# Altium schematic symbol library IC.SchLib: 48 symbols (part 2 of 3)
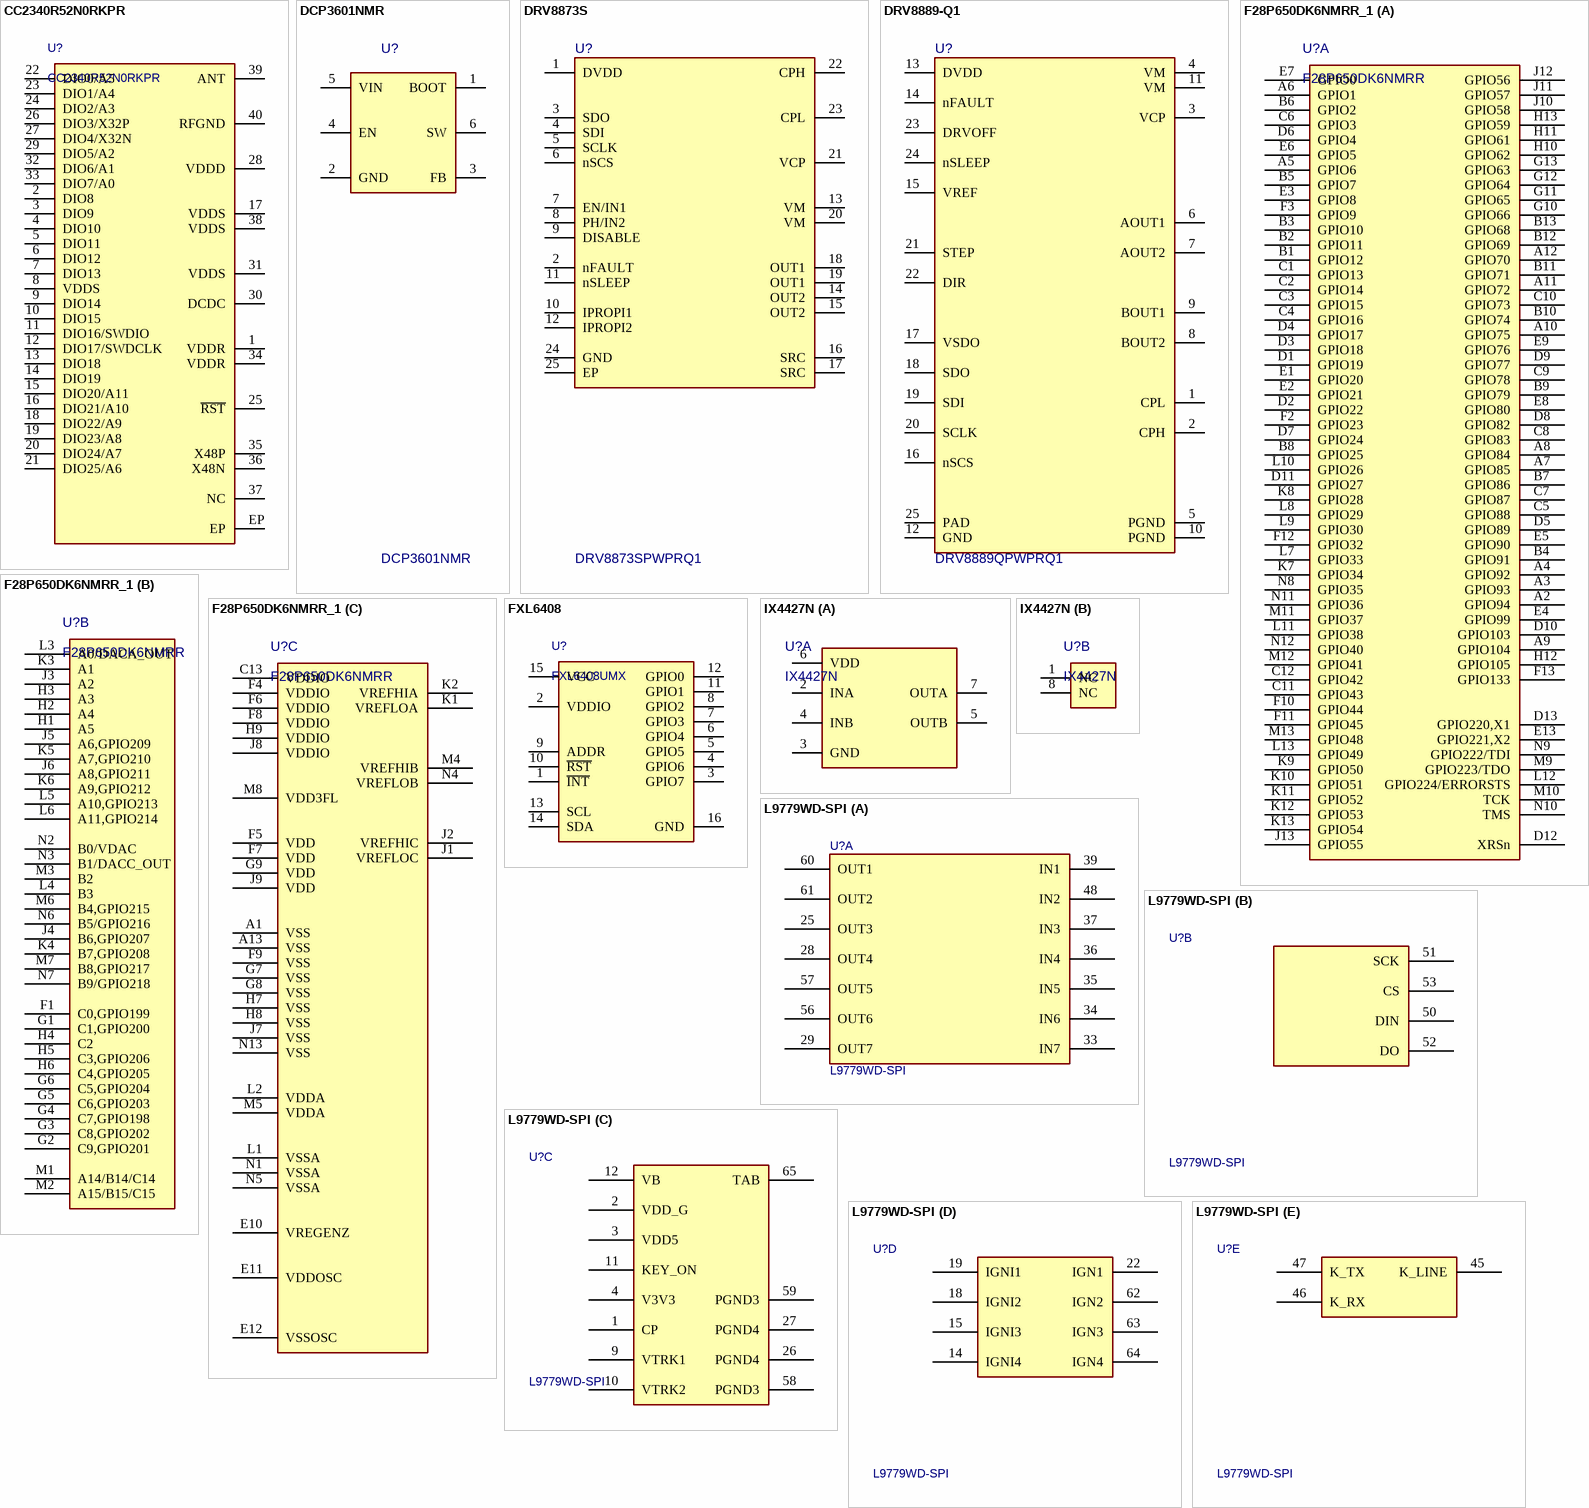
[diagram p6: symbols CC2340R52N0RKPR to L9779WD-SPI]

## IX4427N
designator U?
IC GATE DRVR LOW-SIDE 8SOIC; Manufacturer 1: IXYS; Number of Outputs: 2; Rise Time: 10ns; Output Current: 1.5A; Max Supply Voltage: 35V; Min Supply Voltage: 4.5V; Fall Time: 8ns; Operating Supply Current: 4mA; Turn-Off Delay Time: 60ns; Supplier 1: Mouser; Manufacturer Part Number 1: IX4427N; RoHS: Yes; Category: Gate Drivers; Pricing 1: 1=1.07000, 10=0.96200, 50=0.91300, 100=0.74900, 1000=0.48800, 10000=0.44500 (USD); Case/Package: SOIC; Weight: 0.019048oz; Min Operating Temperature: -40°C; Max Operating Temperature: 125°C; Packaging: Rail/Tube; Package Quantity: 100; Number of Drivers: 2; Turn-On Delay Time: 60ns; Series: IX4427; RoHS Compliant: Yes; ComponentLink1URL: http://www.mouser.com/ds/2/205/IX4426-27-28-257212.pdf?src-supplier=Mouser; ComponentLink1Description: http://www.mouser.com/ds/2/205/IX4426-27-28-257212.pdf?src-supplier=Mouser; ComponentLink2URL: http://www.ixysic.com/home/pdfs.nsf/www/IX4426-27-28.pdf/$file/IX4426-27-28.pdf?src-supplier=Digi-Key; ComponentLink2Description: http://www.ixysic.com/home/pdfs.nsf/www/IX4426-27-28.pdf/$file/IX4426-27-28.pdf?src-supplier=Digi-Key; Manufacturer Part Number: IX4427N
footprint SOIC8 (8-SOIC (0.154", 3.90mm Width))
part A pins: 2 INA, 3 GND, 4 INB, 5 OUTB, 6 VDD, 7 OUTA
part B pins: 1 NC, 8 NC

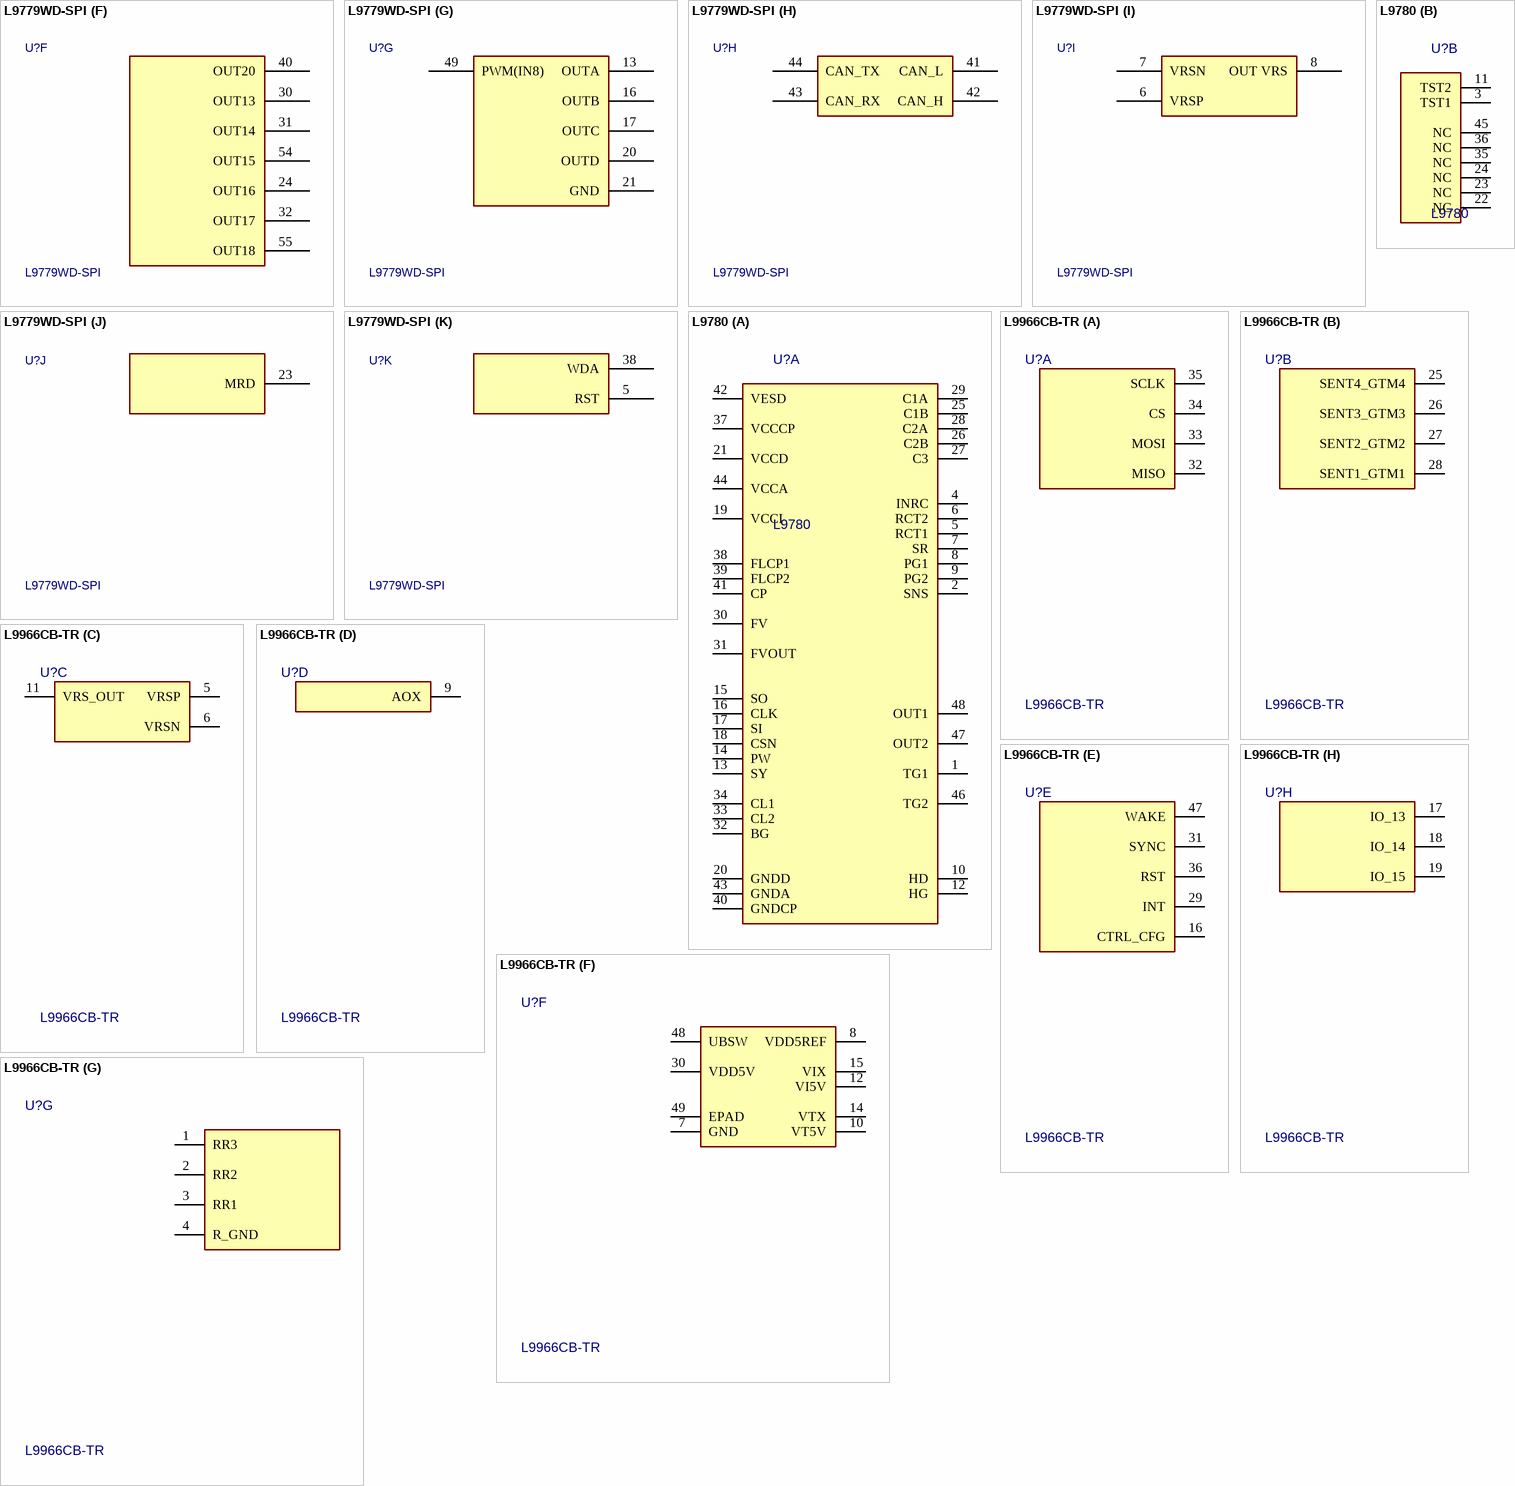
[diagram p2: symbols L9779WD-SPI to L9966CB-TR]

## L9779WD-SPI
designator U?
MULTIFUNCTION IC FOR ENGINE MANA; Manufacturer: STMicroelectronics; Operating Supply Current: 550uA; ComponentLink1URL: https://datasheet.ciiva.com/16844/142-0721-882-16844368.pdf?src-supplier=Future+Electronics; ComponentLink1Description: https://datasheet.ciiva.com/16844/142-0721-882-16844368.pdf?src-supplier=Future+Electronics; Supplier 1: Digi-Key; Manufacturer Part Number: L9779WD-SPI; RoHS: Yes; Category: Voltage Regulators - Linear; Stock 1: 1383; Pricing 1: 1=11,55000, 10=10,61500, 25=10,17520, 100=8,52500, 250=7,97500, 500=7,42500, 1000=7,04000, 2500=6,82000, 5000=6,60000 (USD); Mount: Surface Mount; Min Operating Temperature: -40°C; Max Operating Temperature: 125°C; Packaging: Tray; ComponentLink2URL: http://www.mouser.com/ds/2/389/l9779wd-spi-954852.pdf?src-supplier=Mouser; ComponentLink2Description: http://www.mouser.com/ds/2/389/l9779wd-spi-954852.pdf?src-supplier=Mouser; ComponentLink3URL: http://www.st.com/content/ccc/resource/technical/document/datasheet/ea/10/f2/db/39/73/44/4d/DM00175125.pdf/files/DM00175125.pdf/jcr:content/translations/en.DM00175125.pdf?src-supplier=Digi-Key; ComponentLink3Description: http://www.st.com/content/ccc/resource/technical/document/datasheet/ea/10/f2/db/39/73/44/4d/DM00175125.pdf/files/DM00175125.pdf/jcr:content/translations/en.DM00175125.pdf?src-supplier=Digi-Key; Supplier Part Number 1: 497-16385-ND
footprint HiQUAD-64 (64-Pin HI-QUAD package)
part A pins: 25 OUT3, 28 OUT4, 29 OUT7, 33 IN7, 34 IN6, 35 IN5, 36 IN4, 37 IN3, 39 IN1, 48 IN2, 56 OUT6, 57 OUT5, 60 OUT1, 61 OUT2
part B pins: 50 DIN, 51 SCK, 52 DO, 53 CS
part C pins: 1 CP, 2 VDD_G, 3 VDD5, 4 V3V3, 9 VTRK1, 10 VTRK2, 11 KEY_ON, 12 VB, 26 PGND4, 27 PGND4, 58 PGND3, 59 PGND3, 65 TAB
part D pins: 14 IGNI4, 15 IGNI3, 18 IGNI2, 19 IGNI1, 22 IGN1, 62 IGN2, 63 IGN3, 64 IGN4
part E pins: 45 K_LINE, 46 K_RX, 47 K_TX
part F pins: 24 OUT16, 30 OUT13, 31 OUT14, 32 OUT17, 40 OUT20, 54 OUT15, 55 OUT18
part G pins: 13 OUTA, 16 OUTB, 17 OUTC, 20 OUTD, 21 GND, 49 PWM(IN8)
part H pins: 41 CAN_L, 42 CAN_H, 43 CAN_RX, 44 CAN_TX
part I pins: 6 VRSP, 7 VRSN, 8 OUT VRS
part J pins: 23 MRD
part K pins: 5 RST, 38 WDA

## L9780
designator U?
IC POWERTRAIN INTERFACE 48LQFP; Manufacturer: STMicroelectronics; Supplier: Farnell; Supplier Part Number: 3367205; Manufacturer Part Number: L9780; RoHS: Yes; Category: Power Management ICs; Stock: 6388; RoHS Compliant: Yes; Supplier 1: Digikey; Supplier Part Number 1: 497-L9780-ND
footprint LQFP48 (48 Pin, Body 7x7x1.4)
part A pins: 1 TG1, 2 SNS, 4 INRC, 5 RCT1, 6 RCT2, 7 SR, 8 PG1, 9 PG2, 10 HD, 12 HG, 13 SY, 14 PW, 15 SO, 16 CLK, 17 SI, 18 CSN, 19 VCCI, 20 GNDD, 21 VCCD, 25 C1B, 26 C2B, 27 C3, 28 C2A, 29 C1A, 30 FV, 31 FVOUT, 32 BG, 33 CL2, 34 CL1, 37 VCCCP, 38 FLCP1, 39 FLCP2, 40 GNDCP, 41 CP, 42 VESD, 43 GNDA, 44 VCCA, 46 TG2, 47 OUT2, 48 OUT1
part B pins: 3 TST1, 11 TST2, 22 NC, 23 NC, 24 NC, 35 NC, 36 NC, 45 NC

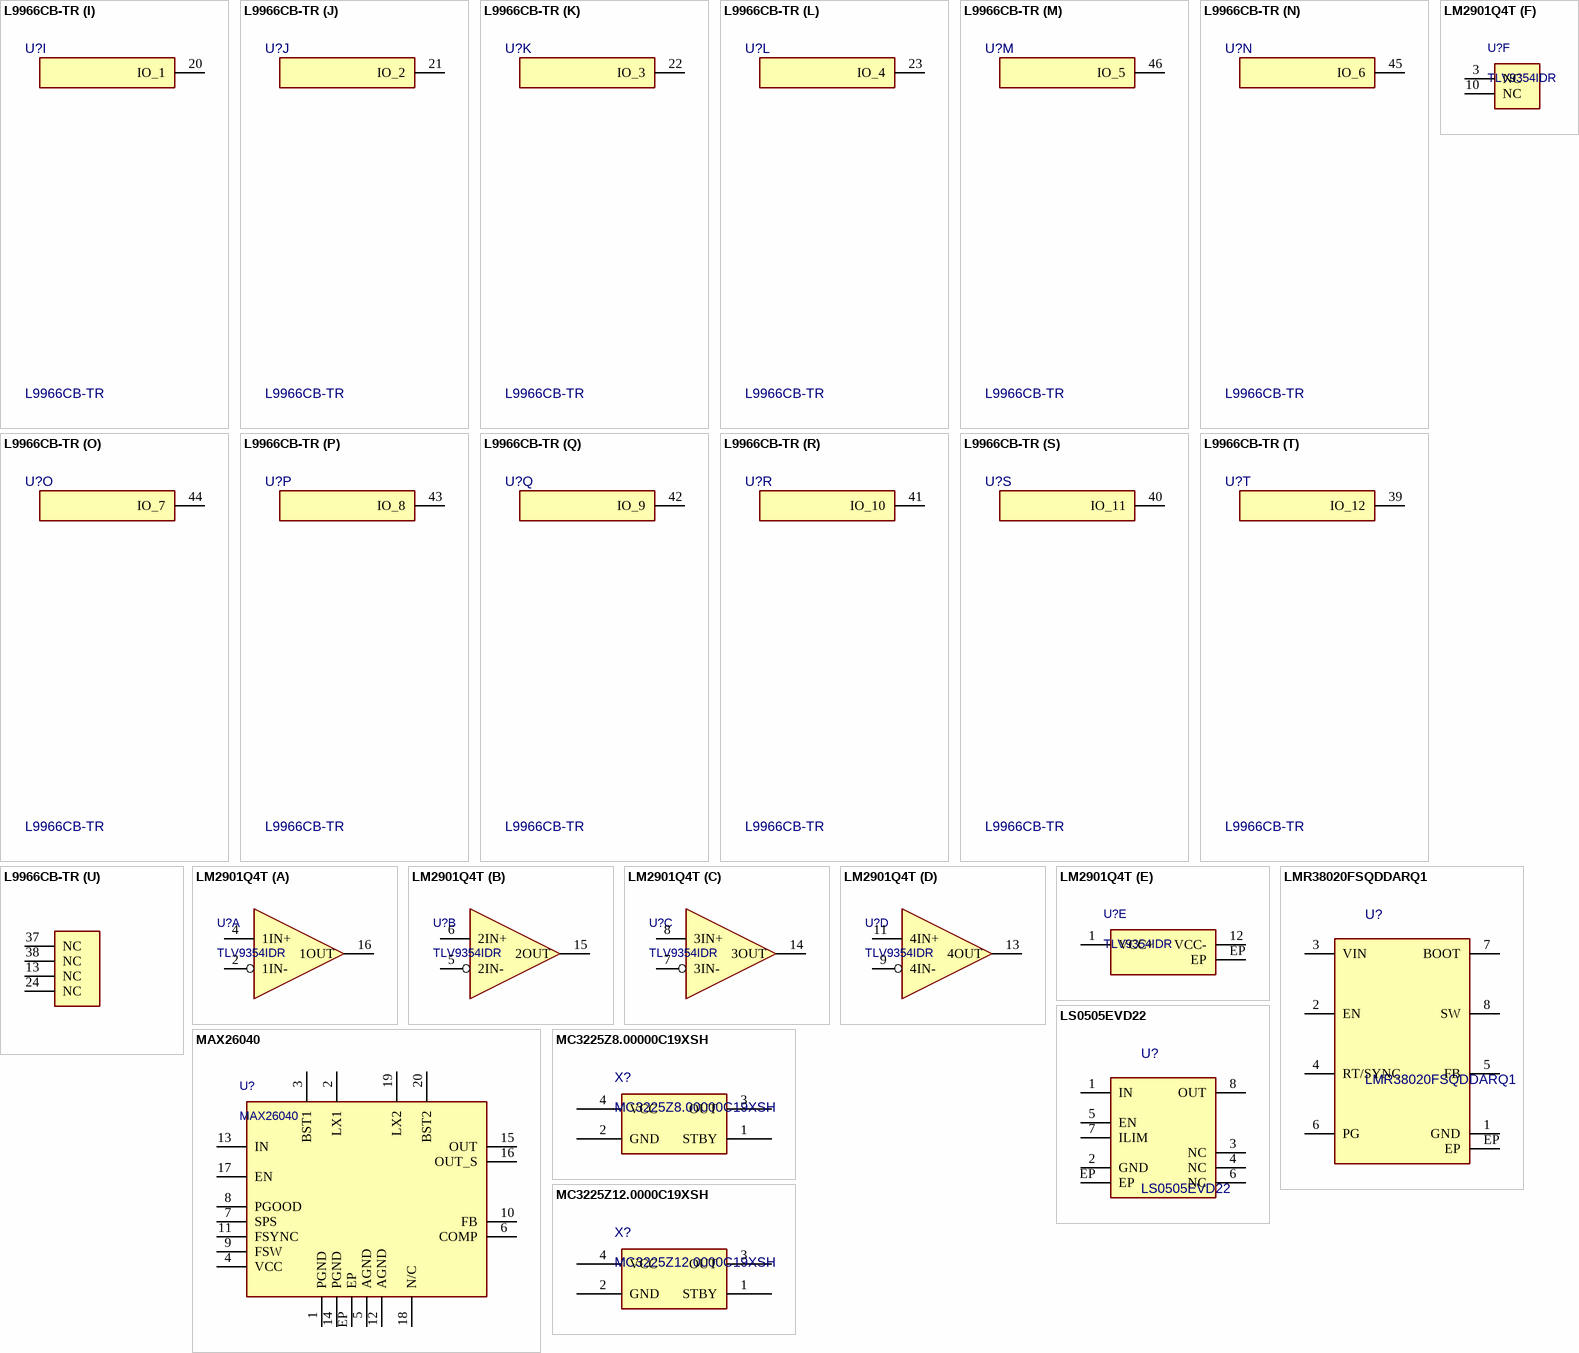
[diagram p3: symbols L9966CB-TR to MC3225Z12.0000C19XSH]

## L9966CB-TR
designator U?
FLEXINPUT IC FOR AUTOMOTIVE APPL; Manufacturer: STMicroelectronics; Supplier 1: Digi-Key; RoHS: Yes; Pricing 1: 2400=4.20000 (USD); Supplier Part Number 1: L9966CB-TR-ND; Manufacturer Part Number: L9966CB-TR; Case/Package: 48-TQFP
footprint TQFP48-EP (TQFP48 (7x7x1 mm exp. pad down 5.0x5.0))
part A pins: 32 MISO, 33 MOSI, 34 CS, 35 SCLK
part B pins: 25 SENT4_GTM4, 26 SENT3_GTM3, 27 SENT2_GTM2, 28 SENT1_GTM1
part C pins: 5 VRSP, 6 VRSN, 11 VRS_OUT
part D pins: 9 AOX
part E pins: 16 CTRL_CFG, 29 INT, 31 SYNC, 36 RST, 47 WAKE
part F pins: 7 GND, 8 VDD5REF, 10 VT5V, 12 VI5V, 14 VTX, 15 VIX, 30 VDD5V, 48 UBSW, 49 EPAD
part G pins: 1 RR3, 2 RR2, 3 RR1, 4 R_GND
part H pins: 17 IO_13, 18 IO_14, 19 IO_15
part I pins: 20 IO_1
part J pins: 21 IO_2
part K pins: 22 IO_3
part L pins: 23 IO_4
part M pins: 46 IO_5
part N pins: 45 IO_6
part O pins: 44 IO_7
part P pins: 43 IO_8
part Q pins: 42 IO_9
part R pins: 41 IO_10
part S pins: 40 IO_11
part T pins: 39 IO_12
part U pins: 13 NC, 24 NC, 37 NC, 38 NC

## LM2901Q4T
designator U?, comment TLV9354IDR
IC COMPARATOR 4 GEN PUR 16QFN; Manufacturer: STMicroelectronics; Manufacturer Part Number: LM2901Q4T; Input Bias Current: 250nA; Input Offset Voltage (Vos): 15mV; Max Dual Supply Voltage: 16V; Max Supply Current: 2.5mA; Max Supply Voltage: 36V; Min Dual Supply Voltage: 1V; Min Supply Voltage: 2V; Nominal Supply Current: 275µA; Number of Channels: 4; Operating Supply Voltage: 5V; Output Type: TTL; Response Time: 1.3µs; Voltage Gain: 106.02dB; Supplier: DigiKey; Supplier Part Number: 497-12401-1-ND; RoHS: Compliant; Category: Comparators; Stock: 7772; Pricing: 1=0,39, 10=0,274, 25=0,2436, 100=0,2106, 250=0,19492, 500=0,18542, 1000=0,1776 (USD); Case/Package: QFN; China RoHS: Compliant; Height - Seated (Max): 1mm; Lead Free: Lead Free; Length: 3mm; Lifecycle Status: Production; Max Operating Temperature: 125°C; Min Operating Temperature: -40°C; Mounting Technology: Surface Mount; Number of Circuits: 4; Number of Elements: 4; Pins: 16; Number of Terminals: 16; Packaging: Tape and Reel; Quiescent Current: 2.5mA; Radiation Hardening: No; REACH SVHC: Yes; Schedule B: 8542390000, 8542390000|8542390000|8542390000|8542390000|8542390000|8542390000|8542390000|8542390000|8542390000|8542390000|8542390000|8542390000|8542390000|8542390000|8542390000|8542390000|8542390000|8542390000|8542390000|8542390000|8542390000|8542390000|8542390000|85; Terminal Pitch: 500µm; Type: General Purpose; Width: 3mm; ComponentLink1URL: https://datasheet.octopart.com:443/LM2901Q4T-STMicroelectronics-datasheet-10836286.pdf?src-supplier=Components+Direct; ComponentLink1Description: https://datasheet.octopart.com:443/LM2901Q4T-STMicroelectronics-datasheet-10836286.pdf?src-supplier=Components+Direct; ComponentLink2URL: https://datasheet.octopart.com:443/LM2901Q4T-STMicroelectronics-datasheet-62333498.pdf?src-supplier=TME; ComponentLink2Description: https://datasheet.octopart.com:443/LM2901Q4T-STMicroelectronics-datasheet-62333498.pdf?src-supplier=TME; Supplier 1: DigiKey; Supplier Part Number 1: 497-12401-1-ND
footprint QFN-16(3x3) (VQFN, 16-Leads, Body 3.5x3.5mm)
part A pins: 2 1IN-, 4 1IN+, 16 1OUT
part B pins: 5 2IN-, 6 2IN+, 15 2OUT
part C pins: 7 3IN-, 8 3IN+, 14 3OUT
part D pins: 9 4IN-, 11 4IN+, 13 4OUT
part E pins: 1 VCC+ (power), 12 VCC- (power), EP (power)
part F pins: 3 NC (power), 10 NC (power)

## LMR38020FSQDDARQ1
designator U?
IC REG BUCK ADJ 2A 8SOPWR "Buck Switching Regulator IC Positive Adjustable 1V 1 Output 2A 8-PowerSOIC (0.154"",...; Manufacturer: Texas Instruments; Manufacturer Lifecycle Status: ACTIVE; Supplier 1: DigiKey; Supplier Part Number 1: 296-LMR38020FSQDDARQ1CT-ND; Supplier: DigiKey; Supplier Part Number: 296-LMR38020FSQDDARQ1CT-ND; Manufacturer Part Number: LMR38020FSQDDARQ1; RoHS: Compliant; Category: Voltage Regulators - Switching; Stock: 1540; Pricing: 1=4,07, 10=3,075, 25=2,8276, 100=2,5554, 250=2,42556, 500=2,34734, 1000=2,28295 (USD); Height: 1.7mm; Length: 4.89mm; Lifecycle Status: Production; Pins: 8; Thickness: 1.48mm; Topology: Buck; Width: 3.9mm; ComponentLink1URL: https://octopart.com:443/opatz8j6/c1?t=RnKbBTbSmE3mjTD1dR24FxyAAtcUZqnsQtDsP4qaaRt0oyG7bshtEFBu6vLylXR4jlzlLxH3YmIwp75uhgYuaKa02Af3M3pSHYrF9pbP756NU9jKj6MH4kp6OAcZn4a9DC5xocQBQSlq5v0i5uUrz6awLaCEIzrqJ7aaisuqo65Tmwh3Bc2ynv2RGtflBgpihQofJD75ObVTodK6cEfO3189ygn4nEum5c9SOknZE1n8hxj51VceGFLxYMLlZFH9fKHDt994IbBDpdeFcmiK5QiXHxXg6LUBMib5BdLAinlGKrie-8d3XRVJszg1o4oV4UTj0HpNy-pOds8ffi4MwCw7MMBOt025wQ2CGDafjRTVZ1269USdfOZLbA8iskyM_VnTcjia_QULjA&src-supplier=Texas+Instruments; ComponentLink1Description: https://octopart.com:443/opatz8j6/c1?t=RnKbBTbSmE3mjTD1dR24FxyAAtcUZqnsQtDsP4qaaRt0oyG7bshtEFBu6vLylXR4jlzlLxH3YmIwp75uhgYuaKa02Af3M3pSHYrF9pbP756NU9jKj6MH4kp6OAcZn4a9DC5xocQBQSlq5v0i5uUrz6awLaCEIzrqJ7aaisuqo65Tmwh3Bc2ynv2RGtflBgpihQofJD75ObVTodK6cEfO3189ygn4nEum5c9SOknZE1n8hxj51VceGFLxYMLlZFH9fKHDt994IbBDpdeFcmiK5QiXHxXg6LUBMib5BdLAinlGKrie-8d3XRVJszg1o4oV4UTj0HpNy-pOds8ffi4MwCw7MMBOt025wQ2CGDafjRTVZ1269USdfOZLbA8iskyM_VnTcjia_QULjA&src-supplier=Texas+Instruments; ComponentLink2URL: https://datasheet.octopart.com:443/LMR38020FSQDDARQ1-Texas-Instruments-datasheet-184261082.pdf?src-supplier=LCSC; ComponentLink2Description: https://datasheet.octopart.com:443/LMR38020FSQDDARQ1-Texas-Instruments-datasheet-184261082.pdf?src-supplier=LCSC; ComponentLink3URL: http://sigma.octopart.com:80/conflict_mineral_statement/Texas-Instruments-company-63.pdf?src-supplier=Compliance+Statements; ComponentLink3Description: http://sigma.octopart.com:80/conflict_mineral_statement/Texas-Instruments-company-63.pdf?src-supplier=Compliance+Statements; ComponentLink4URL: http://sigma.octopart.com:80/reach_statement/Texas-Instruments-company-64.pdf?src-supplier=Compliance+Statements; ComponentLink4Description: http://sigma.octopart.com:80/reach_statement/Texas-Instruments-company-64.pdf?src-supplier=Compliance+Statements
footprint SOIC8_PAD (8-SOIC with exposed pad (0.154", 3.90mm Width))
pins: 1 GND, 2 EN, 3 VIN, 4 RT/SYNC, 5 FB, 6 PG, 7 BOOT, 8 SW, EP

## LS0505EVD22
designator U?
Hot Swap Controller 1-CH 6V N-Channel Electronic Fuse/Hot Swap Controller 8-Pin DFN EP T/R; Manufacturer: Littelfuse; Max Supply Voltage: 28V; Min Supply Voltage: 2.7V; Number of Channels: 1; Operating Supply Voltage: 5V; Supplier 1: DigiKey; Supplier Part Number 1: 18-LS0505EVD22CT-ND; Supplier: DigiKey; Supplier Part Number: 18-LS0505EVD22CT-ND; Manufacturer Part Number: LS0505EVD22; RoHS: Compliant; Category: Integrated Circuits (ICs); Stock: 16008; Pricing: 1=0,75, 10=0,643, 100=0,5, 500=0,439, 1000=0,4131 (USD); Height - Seated (Max): 800µm; Length: 2mm; Lifecycle Status: Production; Max Operating Temperature: 125°C; Min Operating Temperature: -40°C; Number of Circuits: 1; Number of Terminals: 8; REACH SVHC: Yes; Terminal Pitch: 500µm; Width: 2mm; ComponentLink1URL: https://datasheet.octopart.com:443/LS0505EVD22-Littelfuse-datasheet-166056112.pdf?src-supplier=IHS; ComponentLink1Description: https://datasheet.octopart.com:443/LS0505EVD22-Littelfuse-datasheet-166056112.pdf?src-supplier=IHS
footprint DFN2x2_8L (2x2mm)
pins: 1 IN, 2 GND, 3 NC, 4 NC, 5 EN, 6 NC, 7 ILIM, 8 OUT, EP

## MAX26040
designator U?
HV BUCK BOOST FOR VO9V AND FSW; Manufacturer Part Number: MAX26040
footprint QFN-20(4x4) (Plastic low profile quad flat package; 20Pin; 4X4mm)
pins: 1 PGND, 2 LX1, 3 BST1, 4 VCC, 5 AGND, 6 COMP, 7 SPS, 8 PGOOD, 9 FSW, 10 FB, 11 FSYNC, 12 AGND, 13 IN, 14 PGND, 15 OUT, 16 OUT_S, 17 EN, 18 N/C, 19 LX2, 20 BST2, EP

## MC3225Z8.00000C19XSH
designator X?
Crystal Oscillator 8MHz 1.8V/2.5V/3.3V 15pF 4-Pin SMD T/R; Manufacturer: KYOCERA AVX; Fall Time: 1.5ns; Frequency Stability: 30ppm; Low Level Output Current: 4mA; Max Supply Current: 6.5mA; Max Supply Voltage: 3.63V; Min Supply Voltage: 1.71V; Supplier 1: DigiKey; Supplier Part Number 1: 478-MC3225Z8.00000C19XSHCT-ND; Supplier: DigiKey; Supplier Part Number: 478-MC3225Z8.00000C19XSHCT-ND; Manufacturer Part Number: MC3225Z8.00000C19XSH; RoHS: Compliant; Category: Crystals; Stock: 5787; Pricing: 1=1,44, 10=1,248, 25=1,18, 50=1,131, 100=1,0842, 250=1,02532, 500=0,98292, 1000=0,9423 (USD); Frequency: 8MHz; Lifecycle Status: Production; Load Capacitance: 15pF; Max Operating Temperature: 125°C; Min Operating Temperature: -40°C; Mounting Technology: Surface Mount; Number of Terminals: 4; REACH SVHC: Yes; Rise Time: 1.5ns; ComponentLink1URL: https://datasheet.octopart.com:443/MC3225Z8.00000C19XSH-KYOCERA-AVX-datasheet-165896879.pdf?src-supplier=IHS; ComponentLink1Description: https://datasheet.octopart.com:443/MC3225Z8.00000C19XSH-KYOCERA-AVX-datasheet-165896879.pdf?src-supplier=IHS; ComponentLink2URL: https://datasheet.octopart.com:443/MC3225Z80.0000C19XSH-KYOCERA-AVX-datasheet-180539762.pdf?src-supplier=IHS; ComponentLink2Description: https://datasheet.octopart.com:443/MC3225Z80.0000C19XSH-KYOCERA-AVX-datasheet-180539762.pdf?src-supplier=IHS; ComponentLink3URL: https://datasheet.octopart.com:443/MC3225Z8.00000C19XSH-KYOCERA-AVX-datasheet-188906256.pdf?src-supplier=TME; ComponentLink3Description: https://datasheet.octopart.com:443/MC3225Z8.00000C19XSH-KYOCERA-AVX-datasheet-188906256.pdf?src-supplier=TME; ComponentLink4URL: http://sigma.octopart.com:80/reach_statement/AVX-company-19.pdf?src-supplier=Compliance+Statements; ComponentLink4Description: http://sigma.octopart.com:80/reach_statement/AVX-company-19.pdf?src-supplier=Compliance+Statements; ComponentLink5URL: http://sigma.octopart.com:80/conflict_mineral_statement/AVX-company-34.pdf?src-supplier=Compliance+Statements; ComponentLink5Description: http://sigma.octopart.com:80/conflict_mineral_statement/AVX-company-34.pdf?src-supplier=Compliance+Statements
footprint MC3225Z (0.126" L x 0.098" W (3.20mm x 2.50mm))
pins: 1 STBY, 2 GND, 3 OUT, 4 VCC

## MC3225Z12.0000C19XSH
designator X?
XTAL OSC XO 12.0000MHZ CMOS SMD; Manufacturer: KYOCERA AVX; Supplier 1: DigiKey; Supplier Part Number 1: 478-MC3225Z12.0000C19XSHCT-ND; Supplier: DigiKey; Supplier Part Number: 478-MC3225Z12.0000C19XSHCT-ND; Manufacturer Part Number: MC3225Z12.0000C19XSH; Category: Oscillators; Stock: 3356; Pricing: 1=1,44, 10=1,248, 25=1,18, 50=1,131, 100=1,0842, 250=1,02532, 500=0,98292, 1000=0,9423 (USD); ComponentLink1URL: https://datasheet.octopart.com:443/MC3225Z12.0000C19XSH-KYOCERA-AVX-datasheet-188906256.pdf?src-supplier=TME; ComponentLink1Description: https://datasheet.octopart.com:443/MC3225Z12.0000C19XSH-KYOCERA-AVX-datasheet-188906256.pdf?src-supplier=TME; ComponentLink2URL: http://sigma.octopart.com:80/reach_statement/AVX-company-19.pdf?src-supplier=Compliance+Statements; ComponentLink2Description: http://sigma.octopart.com:80/reach_statement/AVX-company-19.pdf?src-supplier=Compliance+Statements; ComponentLink3URL: http://sigma.octopart.com:80/conflict_mineral_statement/AVX-company-34.pdf?src-supplier=Compliance+Statements; ComponentLink3Description: http://sigma.octopart.com:80/conflict_mineral_statement/AVX-company-34.pdf?src-supplier=Compliance+Statements
footprint MC3225Z (0.126" L x 0.098" W (3.20mm x 2.50mm))
pins: 1 STBY, 2 GND, 3 OUT, 4 VCC

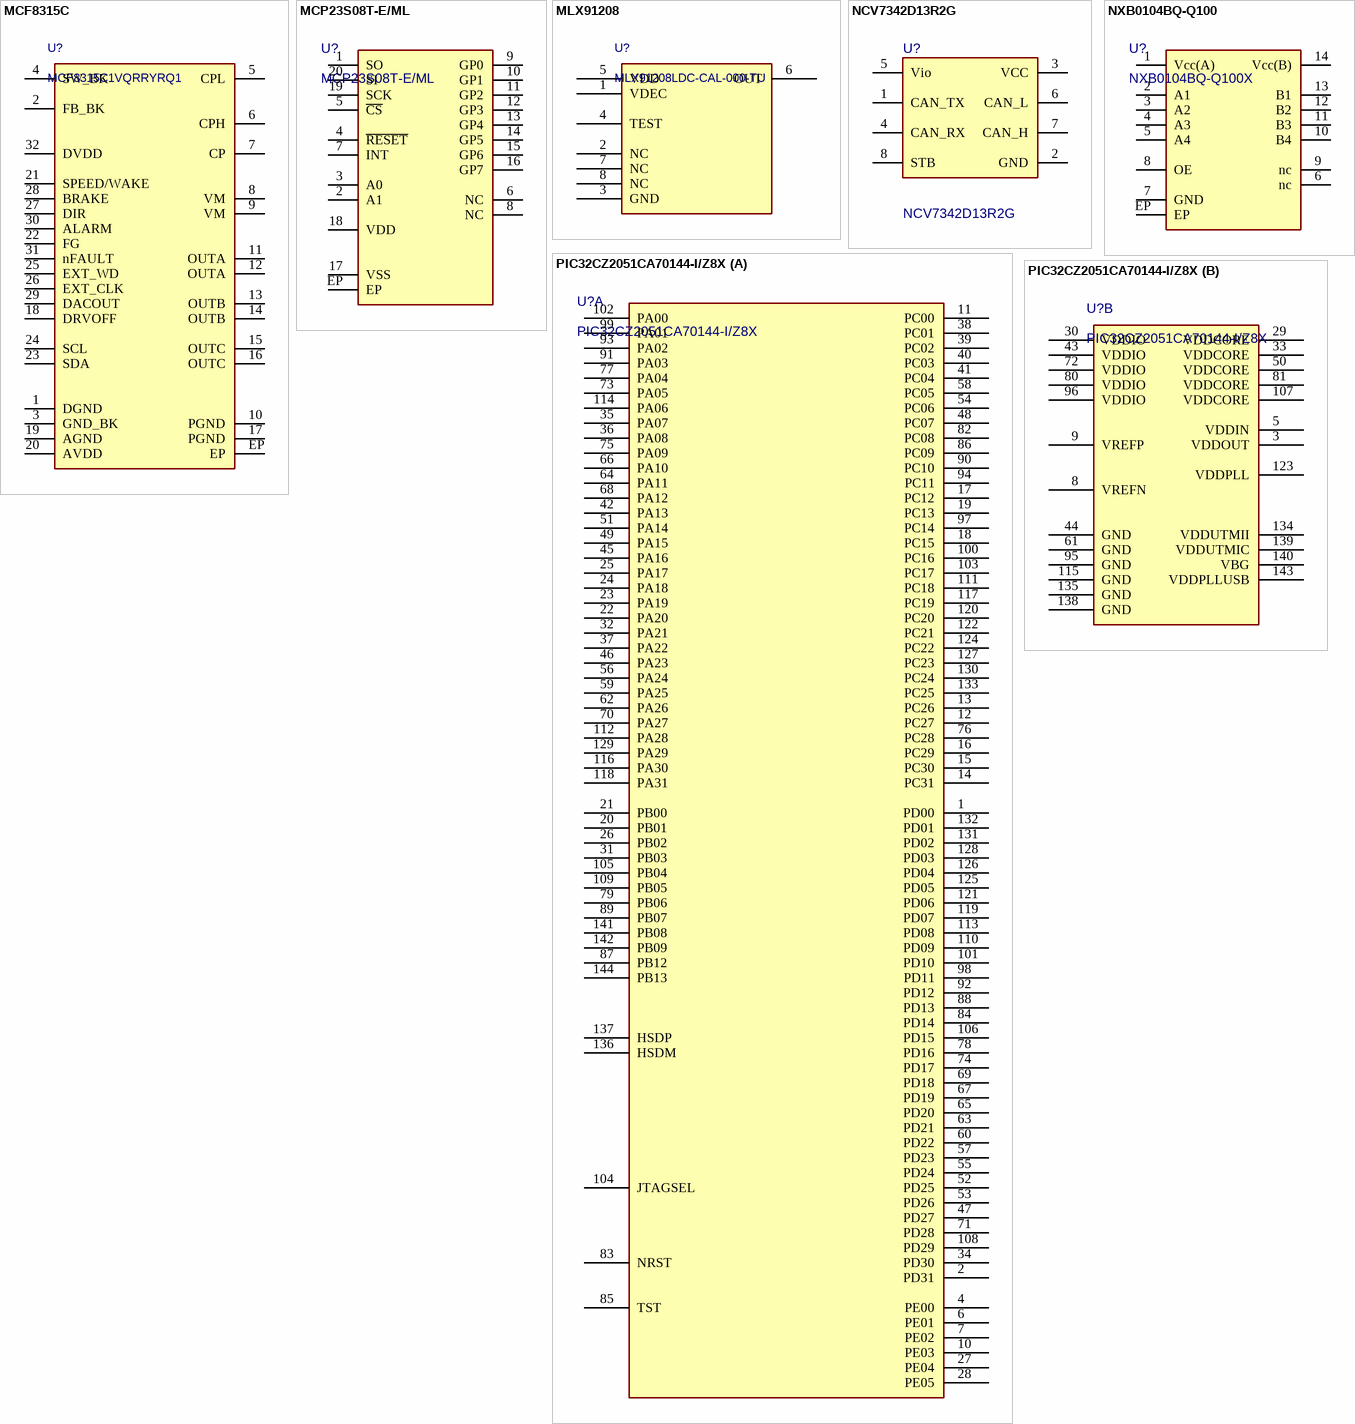
[diagram p4: symbols MCF8315C to PIC32CZ2051CA70144-I/Z8X]

## MCF8315C
designator U?, comment MCF8315C1VQRRYRQ1
Automotive, 40V max, 4A peak, sensorless field-oriented control (FOC) three-phase BLDC motor driver 32-WQFN -40 to 125; Manufacturer: Texas Instruments; Manufacturer Lifecycle Status: ACTIVE; Supplier 1: DigiKey; Supplier Part Number 1: 296-MCF8315C1VQRRYRQ1DKR-ND; Supplier: DigiKey; Supplier Part Number: 296-MCF8315C1VQRRYRQ1DKR-ND; Manufacturer Part Number: MCF8315C1VQRRYRQ1; RoHS: Compliant; Category: Motor Drivers; Pricing: 1=3,67, 10=2,765, 25=2,5392, 100=2,2907, 250=2,17224, 500=2,10084, 1000=2,04208 (USD); Height: 0m; Length: 6mm; Lifecycle Status: Production; Pins: 32; Thickness: 750µm; Width: 4mm; ComponentLink1URL: https://octopart.com:443/opatz8j6/c1?t=RuAKfQwGILErvlz8zObGCjysyK35VJebKBo7uiQpDsL-Xu3haLU6nlF-Ke52ETAZGTbY71omBecyeqNsyvvtQ3kOq347mDWPohrP76M5npt7qIaEEkUcgolibZnC5AjYjxqFyNvOYPDYcX3mZK7ZZMntvvKuK7BfjyLBfFXWBsUJ8YTa8N-u7R_tul0YdjaZA02TaLLH1o9ZC1B2h8Uz3hQHikWUuIG6XvYByXbHPr8e9-29f5clexOhyBBf2amzmzL3vCnDiqKIkF7JJtbXNTFsSzyo5gNa_bWAZ72OTxjPX_UKZmLV5eClsdNjsZfrz8jFxlHuq5QuQavInHZcmOg-nwanHH8BZ0-NJaptGVIRFHBt9s2mF-s4DxvOnw8C0c9xCVa2k_rFFA&src-supplier=Texas+Instruments; ComponentLink1Description: https://octopart.com:443/opatz8j6/c1?t=RuAKfQwGILErvlz8zObGCjysyK35VJebKBo7uiQpDsL-Xu3haLU6nlF-Ke52ETAZGTbY71omBecyeqNsyvvtQ3kOq347mDWPohrP76M5npt7qIaEEkUcgolibZnC5AjYjxqFyNvOYPDYcX3mZK7ZZMntvvKuK7BfjyLBfFXWBsUJ8YTa8N-u7R_tul0YdjaZA02TaLLH1o9ZC1B2h8Uz3hQHikWUuIG6XvYByXbHPr8e9-29f5clexOhyBBf2amzmzL3vCnDiqKIkF7JJtbXNTFsSzyo5gNa_bWAZ72OTxjPX_UKZmLV5eClsdNjsZfrz8jFxlHuq5QuQavInHZcmOg-nwanHH8BZ0-NJaptGVIRFHBt9s2mF-s4DxvOnw8C0c9xCVa2k_rFFA&src-supplier=Texas+Instruments; ComponentLink2URL: http://sigma.octopart.com:80/conflict_mineral_statement/Texas-Instruments-company-63.pdf?src-supplier=Compliance+Statements; ComponentLink2Description: http://sigma.octopart.com:80/conflict_mineral_statement/Texas-Instruments-company-63.pdf?src-supplier=Compliance+Statements; ComponentLink3URL: http://sigma.octopart.com:80/reach_statement/Texas-Instruments-company-64.pdf?src-supplier=Compliance+Statements; ComponentLink3Description: http://sigma.octopart.com:80/reach_statement/Texas-Instruments-company-64.pdf?src-supplier=Compliance+Statements
footprint VQFN32(4x6) (VQFN, 32-Leads, Body 4x6mm)
pins: 1 DGND, 2 FB_BK, 3 GND_BK, 4 SW_BK, 5 CPL, 6 CPH, 7 CP, 8 VM, 9 VM, 10 PGND, 11 OUTA, 12 OUTA, 13 OUTB, 14 OUTB, 15 OUTC, 16 OUTC, 17 PGND, 18 DRVOFF, 19 AGND, 20 AVDD, 21 SPEED/WAKE, 22 FG, 23 SDA, 24 SCL, 25 EXT_WD, 26 EXT_CLK, 27 DIR, 28 BRAKE, 29 DACOUT, 30 ALARM, 31 nFAULT, 32 DVDD, EP

## MCP23S08T-E/ML
designator U?
IC XPNDR 10MHZ SPI 20QFN; Manufacturer: Microchip; Interface: SPI, Serial; Number of I/Os: 8; Operating Supply Voltage: 5.5V; Power Dissipation: 700mW; Supplier: DigiKey; Supplier Part Number: MCP23S08T-E/MLCT-ND; Manufacturer Part Number: MCP23S08T-E/ML; RoHS: Compliant; Category: I/O Expanders; Stock: 10645; Pricing: 1=1,65, 25=1,37, 100=1,325 (USD); Projected EOL Date: 2034-10-04; Case/Package: QFN; Contact Plating: Tin; Country of Assembly: Thailand; Country of Fabrication: United States of America; Country of Origin: Thailand; Export Control Classification Number (ECCN) Code: EAR99; Frequency: 10MHz; Harmonized Tariff Schedule (HTS) Code: 8542.39.0060; Introduction Date: 2006-10-04; Lead Free: Lead Free; Lifecycle Status: Production; Clock Frequency: 10MHz; Max Operating Temperature: 125°C; Min Operating Temperature: -40°C; Pins: 20; Schedule B: 8542390000, 8542390000|8542390000|8542390000|8542390000|8542390000; ComponentLink1URL: https://datasheet.octopart.com:443/MCP23S08T-E/ML-Microchip-datasheet-608140.pdf?src-supplier=Electro+Sonic; ComponentLink1Description: https://datasheet.octopart.com:443/MCP23S08T-E/ML-Microchip-datasheet-608140.pdf?src-supplier=Electro+Sonic; ComponentLink2URL: https://datasheet.octopart.com:443/MCP23S08T-E-ML-Microchip-datasheet-147334618.pdf?src-supplier=Augswan; ComponentLink2Description: https://datasheet.octopart.com:443/MCP23S08T-E-ML-Microchip-datasheet-147334618.pdf?src-supplier=Augswan; ComponentLink3URL: https://datasheet.octopart.com:443/MCP23S08T-E-ML-Microchip-datasheet-158592061.pdf?src-supplier=SHENGYU+ELECTRONICS; ComponentLink3Description: https://datasheet.octopart.com:443/MCP23S08T-E-ML-Microchip-datasheet-158592061.pdf?src-supplier=SHENGYU+ELECTRONICS; ComponentLink4URL: https://datasheet.octopart.com:443/MCP23S08T-E/ML-Microchip-datasheet-139544.pdf?src-supplier=DigiKey; ComponentLink4Description: https://datasheet.octopart.com:443/MCP23S08T-E/ML-Microchip-datasheet-139544.pdf?src-supplier=DigiKey; ComponentLink5URL: https://datasheet.octopart.com:443/MCP23S08T-E/ML-Microchip-datasheet-204.pdf?src-supplier=Mouser; ComponentLink5Description: https://datasheet.octopart.com:443/MCP23S08T-E/ML-Microchip-datasheet-204.pdf?src-supplier=Mouser; ComponentLink6URL: https://datasheet.octopart.com:443/MCP23S08T-E-ML-Microchip-datasheet-166015138.pdf?src-supplier=Microchip; ComponentLink6Description: https://datasheet.octopart.com:443/MCP23S08T-E-ML-Microchip-datasheet-166015138.pdf?src-supplier=Microchip; ComponentLink7URL: http://sigma.octopart.com:80/188450168/materials_sheet/Microchip-MCP23S08T-E-ML.pdf?src-supplier=Compliance+Statements; ComponentLink7Description: http://sigma.octopart.com:80/188450168/materials_sheet/Microchip-MCP23S08T-E-ML.pdf?src-supplier=Compliance+Statements; ComponentLink8URL: http://sigma.octopart.com:80/conflict_mineral_statement/Microchip-company-68.pdf?src-supplier=Compliance+Statements; ComponentLink8Description: http://sigma.octopart.com:80/conflict_mineral_statement/Microchip-company-68.pdf?src-supplier=Compliance+Statements; ComponentLink9URL: http://sigma.octopart.com:80/conflict_mineral_statement/Microchip-company-69.pdf?src-supplier=Compliance+Statements; ComponentLink9Description: http://sigma.octopart.com:80/conflict_mineral_statement/Microchip-company-69.pdf?src-supplier=Compliance+Statements; ComponentLink10URL: http://sigma.octopart.com:80/reach_statement/Microchip-company-70.pdf?src-supplier=Compliance+Statements; ComponentLink10Description: http://sigma.octopart.com:80/reach_statement/Microchip-company-70.pdf?src-supplier=Compliance+Statements; ComponentLink11URL: http://sigma.octopart.com:80/rohs_statement/Microchip-company-71.pdf?src-supplier=Compliance+Statements; ComponentLink11Description: http://sigma.octopart.com:80/rohs_statement/Microchip-company-71.pdf?src-supplier=Compliance+Statements; Supplier 1: DigiKey; Supplier Part Number 1: MCP23S08T-E/MLCT-ND
footprint QFN-20(4x4) (Plastic low profile quad flat package; 20Pin; 4X4mm)
pins: 1 SO, 2 A1, 3 A0, 4 ~{RESET}, 5 ~{CS}, 6 NC, 7 INT, 8 NC, 9 GP0, 10 GP1, 11 GP2, 12 GP3, 13 GP4, 14 GP5, 15 GP6, 16 GP7, 17 VSS, 18 VDD, 19 SCK, 20 SI, EP

## MLX91208
designator U?, comment MLX91208LDC-CAL-000-TU
Hall Effect Sensor, -10mT Min, 10mT Max, -2-2mA, Plastic/epoxy, Rectangular, 8 Pin, Surface Mount; Manufacturer: Melexis; Accuracy: 0.1%; Current Rating: 14mA; Frequency: 200kHz; Linearity: 0.75%; Max Junction Temperature (Tj): 155°C; Max Output current: 2mA; Max Supply Voltage: 5.5V; Min Supply Voltage: 4.5V; Number of Channels: 1; Operating Supply Current: 12mA; Output Configuration: Analog; Polarity: Bidirectional; Response Time: 3µs; Supplier 1: DigiKey; Supplier Part Number 1: MLX91208LDC-CAL-000-TU-ND; Supplier: DigiKey; Supplier Part Number: MLX91208LDC-CAL-000-TU-ND; Manufacturer Part Number: MLX91208LDC-CAL-000-TU; RoHS: Compliant; Category: Magnetic Sensors; Stock: 619; Pricing: 1=4,05, 5=3,624, 10=3,468, 25=3,28, 80=3,071, 160=2,96038, 560=2,78313, 1040=2,70527 (USD); Ambient Temperature Range High: 150°C; Case/Package: SOIC; Height: 1.64mm; Lead Free: Lead Free; Length: 4.89mm; Lifecycle Status: Production; Max Operating Temperature: 150°C; Max Supply Current: 14mA; Min Operating Temperature: -40°C; Mounting Technology: Surface Mount; Number of Terminals: 8; Output Current: 2mA; REACH SVHC: Yes; Sensing Method: Hall Effect; ComponentLink1URL: https://datasheet.octopart.com:443/MLX91208LDC-CAL-000-TU-Melexis-datasheet-180628137.pdf?src-supplier=IHS; ComponentLink1Description: https://datasheet.octopart.com:443/MLX91208LDC-CAL-000-TU-Melexis-datasheet-180628137.pdf?src-supplier=IHS; ComponentLink2URL: https://datasheet.octopart.com:443/MLX91208LDC-CAL-000-TU-Melexis-datasheet-62983323.pdf?src-supplier=Future+Electronics; ComponentLink2Description: https://datasheet.octopart.com:443/MLX91208LDC-CAL-000-TU-Melexis-datasheet-62983323.pdf?src-supplier=Future+Electronics; ComponentLink3URL: https://datasheet.octopart.com:443/MLX91208LDC-CAL-000-TU-Melexis-datasheet-31820421.pdf?src-supplier=Future+Electronics; ComponentLink3Description: https://datasheet.octopart.com:443/MLX91208LDC-CAL-000-TU-Melexis-datasheet-31820421.pdf?src-supplier=Future+Electronics
footprint SOIC8 (8-SOIC (0.154", 3.90mm Width))
pins: 1 VDEC, 2 NC, 3 GND, 4 TEST, 5 VDD, 6 OUT, 7 NC, 8 NC

## NCV7342D13R2G
designator U?
IC TRANSCEIVER HALF 1/1 8SOIC; Manufacturer: ON Semiconductor; Data Rate: 1Mbps; Max Supply Voltage: 5.5V; Min Supply Voltage: 4.5V; Number of Transceivers: 1; Supplier 1: Digi-Key; Manufacturer Part Number: NCV7342D13R2G; RoHS: Yes; Category: Interface ICs; Pricing 1: 1=0.95000, 10=0.85000, 25=0.80680, 100=0.66290, 250=0.61968, 500=0.54760, 1000=0.47582 (USD); Mount: Surface Mount; Case/Package: SOIC; Number of Pins: 8; Min Operating Temperature: -40°C; Max Operating Temperature: 125°C; Packaging: Tape and Reel; Package Quantity: 3000; Lead Free: Lead Free; RoHS Compliant: Yes; ComponentLink1URL: http://www.farnell.com/datasheets/2160795.pdf?src-supplier=Farnell; ComponentLink1Description: http://www.farnell.com/datasheets/2160795.pdf?src-supplier=Farnell; ComponentLink2URL: http://www.mouser.com/ds/2/308/NCV7342-D-269211.pdf?src-supplier=Mouser; ComponentLink2Description: http://www.mouser.com/ds/2/308/NCV7342-D-269211.pdf?src-supplier=Mouser; ComponentLink3URL: http://www.onsemi.com/pub/Collateral/NCV7342-D.PDF?src-supplier=Digi-Key; ComponentLink3Description: http://www.onsemi.com/pub/Collateral/NCV7342-D.PDF?src-supplier=Digi-Key; ComponentLink4URL: http://www.onsemi.com/pub_link/Collateral/NCV7342-D.PDF?src-supplier=Avnet; ComponentLink4Description: http://www.onsemi.com/pub_link/Collateral/NCV7342-D.PDF?src-supplier=Avnet; ComponentLink5URL: http://www.farnell.com/datasheets/2160795.pdf?src-supplier=Newark; ComponentLink5Description: http://www.farnell.com/datasheets/2160795.pdf?src-supplier=Newark; ComponentLink6URL: http://www.farnell.com/datasheets/2160795.pdf?src-supplier=Element14; ComponentLink6Description: http://www.farnell.com/datasheets/2160795.pdf?src-supplier=Element14; Supplier Part Number 1: NCV7342D13R2GOSCT-ND
footprint SOIC8 (8-SOIC (0.154", 3.90mm Width))
pins: 1 CAN_TX, 2 GND, 3 VCC, 4 CAN_RX, 5 Vio, 6 CAN_L, 7 CAN_H, 8 STB

## NXB0104BQ-Q100
designator U?, comment NXB0104BQ-Q100X
1.65V~5.5V 1 2 1.2V~3.6V 100Mbps DHVQFN-14-EP(2.5x3) Translators / Level Shifters ROHS; Manufacturer: Nexperia; Manufacturer Lifecycle Status: RELEASED FOR SUPPLY; Supplier: DigiKey; Supplier Part Number: 1727-NXB0104BQ-Q100XCT-ND; Manufacturer Part Number: NXB0104BQ-Q100X; RoHS: Compliant; Category: Voltage Level Shifters; Stock: 3106; Pricing: 1=0,73, 10=0,517, 25=0,4648, 100=0,4068, 250=0,3792, 500=0,36258, 1000=0,35771 (USD); Lifecycle Status: Production; ComponentLink1URL: https://datasheet.octopart.com:443/NXB0104BQ-Q100X-Nexperia-datasheet-137152397.pdf?src-supplier=Future+Electronics; ComponentLink1Description: https://datasheet.octopart.com:443/NXB0104BQ-Q100X-Nexperia-datasheet-137152397.pdf?src-supplier=Future+Electronics; Supplier 1: DigiKey; Supplier Part Number 1: 1727-NXB0104BQ-Q100XCT-ND
footprint DHVQFN14 (plastic, leadless dual in-line compatible thermal enhanced / very thin quad flat package; 14 terminals; 0.5 mm pitch; 2.5x3x1 mm body)
pins: 1 Vcc(A), 2 A1, 3 A2, 4 A3, 5 A4, 6 nc, 7 GND, 8 OE, 9 nc, 10 B4, 11 B3, 12 B2, 13 B1, 14 Vcc(B), EP

## PIC32CZ2051CA70144-I/Z8X
designator U?
CM7, 2048kB Flash, 512kB SRAM, TQFP144; Manufacturer: Microchip; Supplier 1: Digikey; Supplier Part Number 1: 150-PIC32CZ2051CA70144-I/Z8X-ND; Supplier: Digikey; Supplier Part Number: 150-PIC32CZ2051CA70144-I/Z8X-ND; Manufacturer Part Number: PIC32CZ2051CA70144-I/Z8X; RoHS: No; Category: Microcontrollers; Stock: 120; Pricing: 1=8,06, 25=7,32, 100=6,66 (USD); ComponentLink1URL: https://datasheet.octopart.com/PIC32CZ2051CA70144-I-Z8X-Microchip-datasheet-187817571.pdf?src-supplier=microchipDIRECT; ComponentLink1Description: https://datasheet.octopart.com/PIC32CZ2051CA70144-I-Z8X-Microchip-datasheet-187817571.pdf?src-supplier=microchipDIRECT
footprint LQFP144 (144-Lead Plastic Thin Quad Flat Pack, 20x20mm)
part A pins: 1 PD00, 2 PD31, 4 PE00, 6 PE01, 7 PE02, 10 PE03, 11 PC00, 12 PC27, 13 PC26, 14 PC31, 15 PC30, 16 PC29, 17 PC12, 18 PC15, 19 PC13, 20 PB01, 21 PB00, 22 PA20, 23 PA19, 24 PA18, 25 PA17, 26 PB02, 27 PE04, 28 PE05, 31 PB03, 32 PA21, 34 PD30, 35 PA07, 36 PA08, 37 PA22, 38 PC01, 39 PC02, 40 PC03, 41 PC04, 42 PA13, 45 PA16, 46 PA23, 47 PD27, 48 PC07, 49 PA15, 51 PA14, 52 PD25, 53 PD26, 54 PC06, 55 PD24, 56 PA24, 57 PD23, 58 PC05, 59 PA25, 60 PD22, 62 PA26, 63 PD21, 64 PA11, 65 PD20, 66 PA10, 67 PD19, 68 PA12, 69 PD18, 70 PA27, 71 PD28, 73 PA05, 74 PD17, 75 PA09, 76 PC28, 77 PA04, 78 PD16, 79 PB06, 82 PC08, 83 NRST, 84 PD14, 85 TST, 86 PC09, 87 PB12, 88 PD13, 89 PB07, 90 PC10, 91 PA03, 92 PD12, 93 PA02, 94 PC11, 97 PC14, 98 PD11, 99 PA01, 100 PC16, 101 PD10, 102 PA00, 103 PC17, 104 JTAGSEL, 105 PB04, 106 PD15, 108 PD29, 109 PB05, 110 PD09, 111 PC18, 112 PA28, 113 PD08, 114 PA06, 116 PA30, 117 PC19, 118 PA31, 119 PD07, 120 PC20, 121 PD06, 122 PC21, 124 PC22, 125 PD05, 126 PD04, 127 PC23, 128 PD03, 129 PA29, 130 PC24, 131 PD02, 132 PD01, 133 PC25, 136 HSDM, 137 HSDP, 141 PB08, 142 PB09, 144 PB13
part B pins: 3 VDDOUT, 5 VDDIN, 8 VREFN, 9 VREFP, 29 VDDCORE, 30 VDDIO, 33 VDDCORE, 43 VDDIO, 44 GND, 50 VDDCORE, 61 GND, 72 VDDIO, 80 VDDIO, 81 VDDCORE, 95 GND, 96 VDDIO, 107 VDDCORE, 115 GND, 123 VDDPLL, 134 VDDUTMII, 135 GND, 138 GND, 139 VDDUTMIC, 140 VBG, 143 VDDPLLUSB

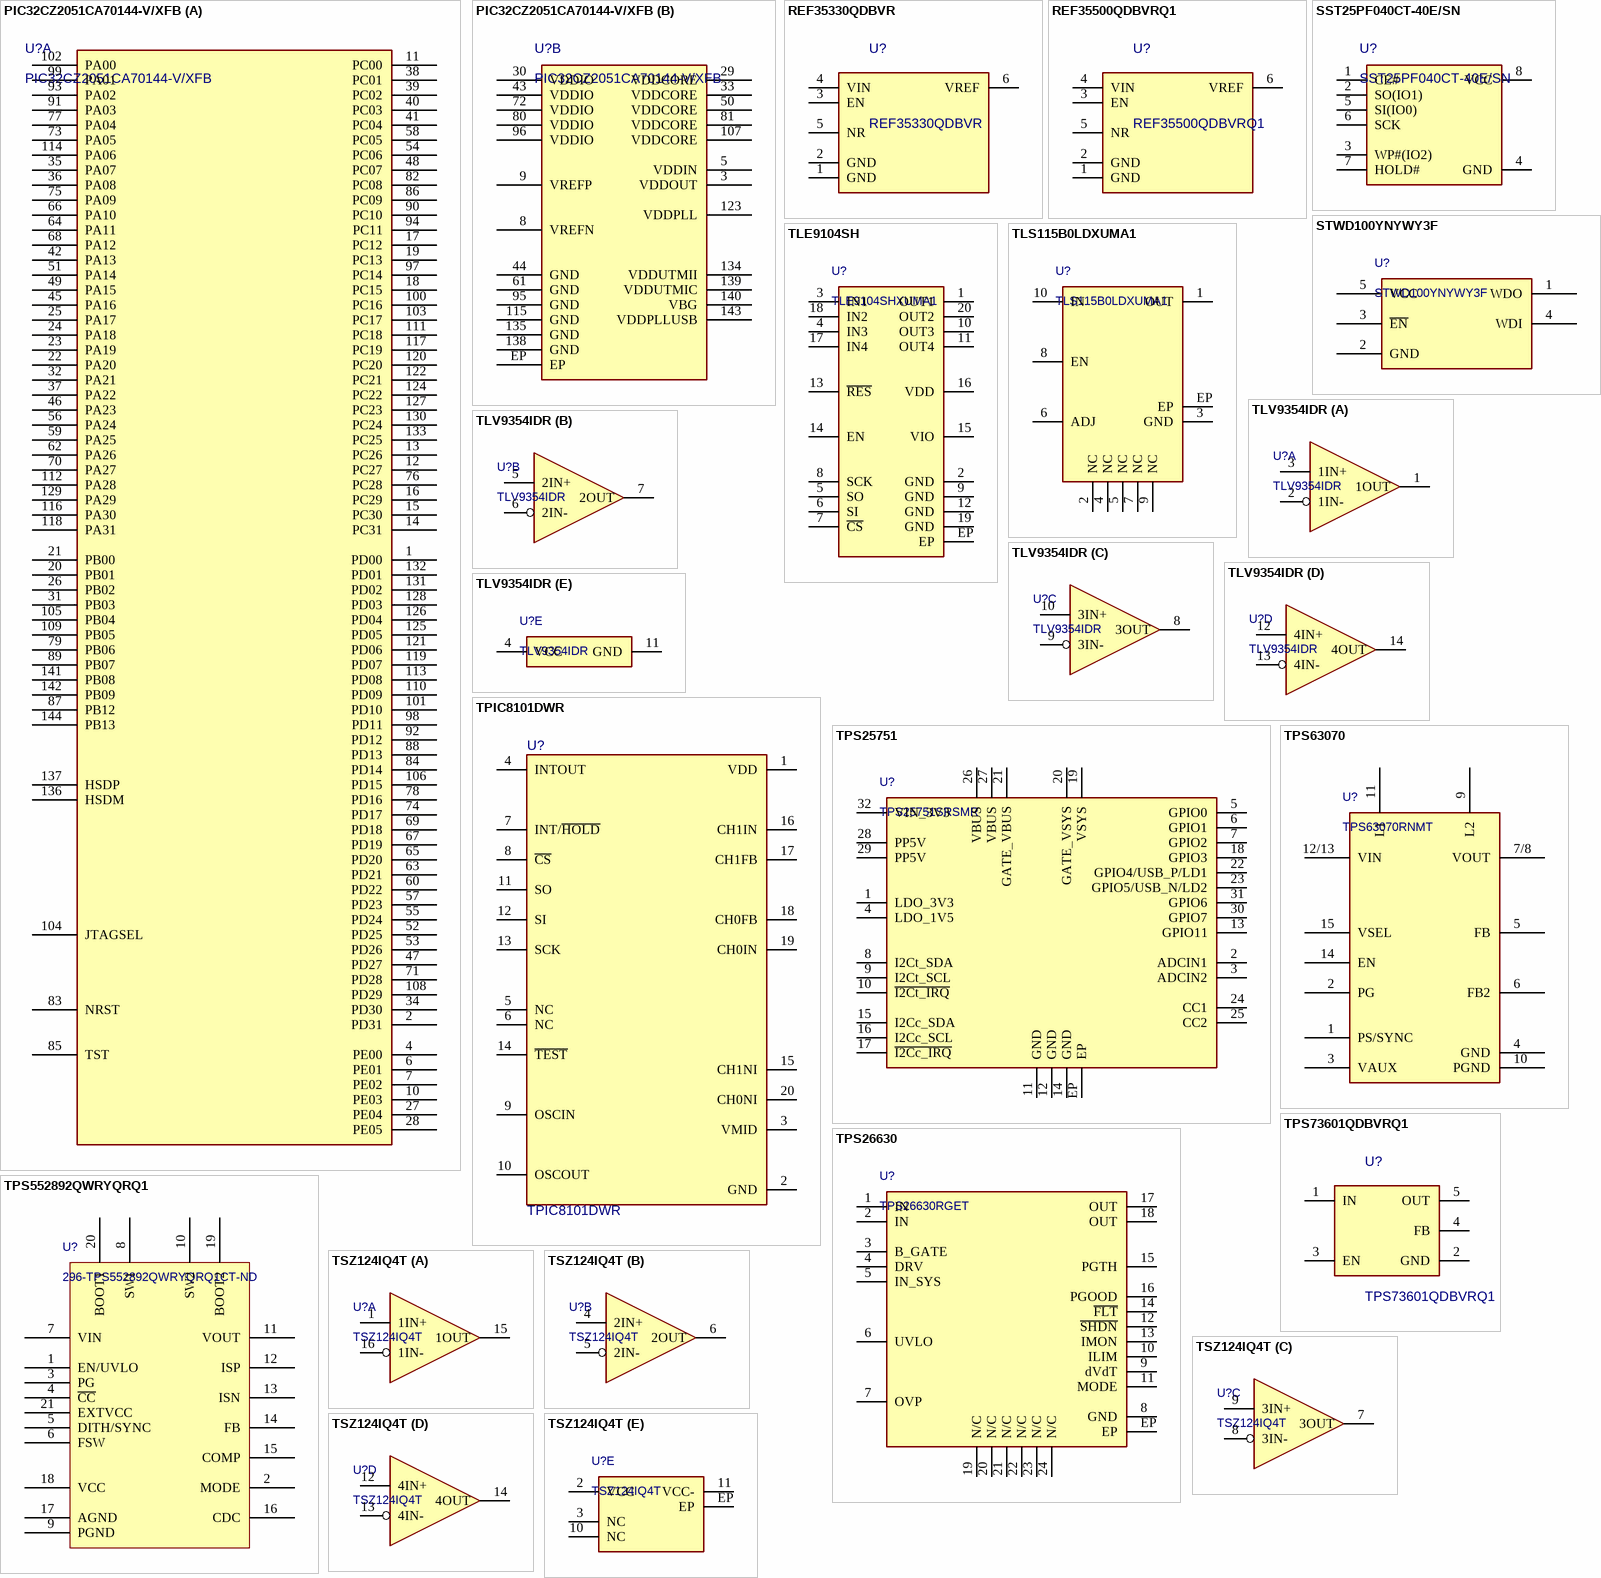
[diagram p5: symbols PIC32CZ2051CA70144-V/XFB to TSZ124IQ4T]

## PIC32CZ2051CA70144-V/XFB
designator U?
CM7, 2048KB FLASH, 512KB SRAM, E; Manufacturer: Microchip; Supplier 1: DigiKey; Supplier Part Number 1: 150-PIC32CZ2051CA70144-V/XFB-ND; Supplier: DigiKey; Supplier Part Number: 150-PIC32CZ2051CA70144-V/XFB-ND; Manufacturer Part Number: PIC32CZ2051CA70144-V/XFB; Category: Microcontrollers; Pricing: 120=7,32008 (USD); Projected EOL Date: 2050-06-04; Case/Package: TQFP; Country of Assembly: Philippines; Country of Fabrication: Singapore; Country of Origin: Philippines; Export Control Classification Number (ECCN) Code: 3A991.a.2; Harmonized Tariff Schedule (HTS) Code: 8542.31.0025; Introduction Date: 2025-06-04; Lifecycle Status: Production; Pins: 144; ComponentLink1URL: https://datasheet.octopart.com:443/PIC32CZ2051CA70144-V-XFB-Microchip-datasheet-187817571.pdf?src-supplier=Microchip; ComponentLink1Description: https://datasheet.octopart.com:443/PIC32CZ2051CA70144-V-XFB-Microchip-datasheet-187817571.pdf?src-supplier=Microchip; ComponentLink2URL: http://sigma.octopart.com:80/rohs_statement/Microchip-company-71.pdf?src-supplier=Compliance+Statements; ComponentLink2Description: http://sigma.octopart.com:80/rohs_statement/Microchip-company-71.pdf?src-supplier=Compliance+Statements; ComponentLink3URL: http://sigma.octopart.com:80/reach_statement/Microchip-company-70.pdf?src-supplier=Compliance+Statements; ComponentLink3Description: http://sigma.octopart.com:80/reach_statement/Microchip-company-70.pdf?src-supplier=Compliance+Statements; ComponentLink4URL: http://sigma.octopart.com:80/conflict_mineral_statement/Microchip-company-69.pdf?src-supplier=Compliance+Statements; ComponentLink4Description: http://sigma.octopart.com:80/conflict_mineral_statement/Microchip-company-69.pdf?src-supplier=Compliance+Statements; ComponentLink5URL: http://sigma.octopart.com:80/conflict_mineral_statement/Microchip-company-68.pdf?src-supplier=Compliance+Statements; ComponentLink5Description: http://sigma.octopart.com:80/conflict_mineral_statement/Microchip-company-68.pdf?src-supplier=Compliance+Statements
footprint LQFP144-EP (144-Lead Plastic Thin Quad Flat Pack with epad, 20x20mm)
part A pins: 1 PD00, 2 PD31, 4 PE00, 6 PE01, 7 PE02, 10 PE03, 11 PC00, 12 PC27, 13 PC26, 14 PC31, 15 PC30, 16 PC29, 17 PC12, 18 PC15, 19 PC13, 20 PB01, 21 PB00, 22 PA20, 23 PA19, 24 PA18, 25 PA17, 26 PB02, 27 PE04, 28 PE05, 31 PB03, 32 PA21, 34 PD30, 35 PA07, 36 PA08, 37 PA22, 38 PC01, 39 PC02, 40 PC03, 41 PC04, 42 PA13, 45 PA16, 46 PA23, 47 PD27, 48 PC07, 49 PA15, 51 PA14, 52 PD25, 53 PD26, 54 PC06, 55 PD24, 56 PA24, 57 PD23, 58 PC05, 59 PA25, 60 PD22, 62 PA26, 63 PD21, 64 PA11, 65 PD20, 66 PA10, 67 PD19, 68 PA12, 69 PD18, 70 PA27, 71 PD28, 73 PA05, 74 PD17, 75 PA09, 76 PC28, 77 PA04, 78 PD16, 79 PB06, 82 PC08, 83 NRST, 84 PD14, 85 TST, 86 PC09, 87 PB12, 88 PD13, 89 PB07, 90 PC10, 91 PA03, 92 PD12, 93 PA02, 94 PC11, 97 PC14, 98 PD11, 99 PA01, 100 PC16, 101 PD10, 102 PA00, 103 PC17, 104 JTAGSEL, 105 PB04, 106 PD15, 108 PD29, 109 PB05, 110 PD09, 111 PC18, 112 PA28, 113 PD08, 114 PA06, 116 PA30, 117 PC19, 118 PA31, 119 PD07, 120 PC20, 121 PD06, 122 PC21, 124 PC22, 125 PD05, 126 PD04, 127 PC23, 128 PD03, 129 PA29, 130 PC24, 131 PD02, 132 PD01, 133 PC25, 136 HSDM, 137 HSDP, 141 PB08, 142 PB09, 144 PB13
part B pins: 3 VDDOUT, 5 VDDIN, 8 VREFN, 9 VREFP, 29 VDDCORE, 30 VDDIO, 33 VDDCORE, 43 VDDIO, 44 GND, 50 VDDCORE, 61 GND, 72 VDDIO, 80 VDDIO, 81 VDDCORE, 95 GND, 96 VDDIO, 107 VDDCORE, 115 GND, 123 VDDPLL, 134 VDDUTMII, 135 GND, 138 GND, 139 VDDUTMIC, 140 VBG, 143 VDDPLLUSB, EP

## REF35330QDBVR
designator U?
IC VREF SERIES SOT23-6; Manufacturer: Texas Instruments; Max Supply Voltage: 6V; Min Supply Voltage: 3.55V; Nominal Supply Current: 650nA; Number of Outputs: 1NUMBER; Output Current: 10mA; Output Voltage: 3.3V; Supplier: Digikey; Supplier Part Number: 296-REF35330QDBVRCT-ND; Manufacturer Part Number: REF35330QDBVR; RoHS: No; Category: Voltage References; Stock: 5957; Pricing: 1=1,91, 10=1,407, 25=1,2812, 100=1,1426, 250=1,07652, 500=1,03672, 1000=1,00393 (USD); Case/Package: 926Case; Pins: 6NUMBER; Min Operating Temperature: -40°C; Max Operating Temperature: 125°C; Length: 2.9mm; Width: 1.6mm; Thickness: 1.2mm; Supplier 1: Digikey; Supplier Part Number 1: 296-REF35330QDBVRCT-ND
footprint SOT-23-6 (SOT-23, 5-Leads, Body 2.8x1.5mm)
pins: 1 GND, 2 GND, 3 EN, 4 VIN, 5 NR, 6 VREF

## REF35500QDBVRQ1
designator U?
AUTOMOTIVE, 650-NA QUIESCENT CUR; Manufacturer: Texas Instruments; Supplier: Digikey; Supplier Part Number: 296-REF35500QDBVRQ1TR-ND; Manufacturer Part Number: REF35500QDBVRQ1; RoHS: No; Pricing: 3000=1,133, 6000=1,11037, 9000=1,09905 (USD); Case/Package: SOT-23; Pins: 6; Length: 2.9mm; Width: 1.6mm; Thickness: 1.2mm; Supplier 1: Digikey; Supplier Part Number 1: 296-REF35500QDBVRQ1TR-ND
footprint SOT-23-6 (SOT-23, 5-Leads, Body 2.8x1.5mm)
pins: 1 GND, 2 GND, 3 EN, 4 VIN, 5 NR, 6 VREF

## SST25PF040CT-40E/SN
designator U?
IC FLASH 4MBIT SPI 40MHZ 8SOIC; Manufacturer: Microchip; Supplier: DigiKey; Supplier Part Number: SST25PF040CT-40E/SNCT-ND; Manufacturer Part Number: SST25PF040CT-40E/SN; RoHS: Compliant; Category: Flash; Stock: 8162; Pricing: 1=1,39 (USD); Projected EOL Date: 2044-04-05; Case/Package: SOIC; Country of Assembly: Thailand; Country of Fabrication: China; Country of Origin: Taiwan, Thailand; Export Control Classification Number (ECCN) Code: EAR99; Harmonized Tariff Schedule (HTS) Code: 8542.32.0051; Introduction Date: 2019-04-05; Lifecycle Status: Production; Pins: 8; ComponentLink1URL: https://datasheet.octopart.com:443/SST25PF040CT-40E-SN-Microchip-datasheet-147335944.pdf?src-supplier=Future+Electronics; ComponentLink1Description: https://datasheet.octopart.com:443/SST25PF040CT-40E-SN-Microchip-datasheet-147335944.pdf?src-supplier=Future+Electronics; ComponentLink2URL: https://datasheet.octopart.com:443/SST25PF040CT-40E-SN-Microchip-datasheet-160579706.pdf?src-supplier=Electro+Sonic; ComponentLink2Description: https://datasheet.octopart.com:443/SST25PF040CT-40E-SN-Microchip-datasheet-160579706.pdf?src-supplier=Electro+Sonic; ComponentLink3URL: http://sigma.octopart.com:80/188449173/materials_sheet/Microchip-SST25PF040CT-40E-SN.pdf?src-supplier=Compliance+Statements; ComponentLink3Description: http://sigma.octopart.com:80/188449173/materials_sheet/Microchip-SST25PF040CT-40E-SN.pdf?src-supplier=Compliance+Statements; ComponentLink4URL: http://sigma.octopart.com:80/conflict_mineral_statement/Microchip-company-68.pdf?src-supplier=Compliance+Statements; ComponentLink4Description: http://sigma.octopart.com:80/conflict_mineral_statement/Microchip-company-68.pdf?src-supplier=Compliance+Statements; ComponentLink5URL: http://sigma.octopart.com:80/conflict_mineral_statement/Microchip-company-69.pdf?src-supplier=Compliance+Statements; ComponentLink5Description: http://sigma.octopart.com:80/conflict_mineral_statement/Microchip-company-69.pdf?src-supplier=Compliance+Statements; ComponentLink6URL: http://sigma.octopart.com:80/reach_statement/Microchip-company-70.pdf?src-supplier=Compliance+Statements; ComponentLink6Description: http://sigma.octopart.com:80/reach_statement/Microchip-company-70.pdf?src-supplier=Compliance+Statements; ComponentLink7URL: http://sigma.octopart.com:80/rohs_statement/Microchip-company-71.pdf?src-supplier=Compliance+Statements; ComponentLink7Description: http://sigma.octopart.com:80/rohs_statement/Microchip-company-71.pdf?src-supplier=Compliance+Statements; Supplier 1: DigiKey; Supplier Part Number 1: SST25PF040CT-40E/SNCT-ND
footprint SOIC8 (8-SOIC (0.154", 3.90mm Width))
pins: 1 CE#, 2 SO(IO1), 3 WP#(IO2), 4 GND, 5 SI(IO0), 6 SCK, 7 HOLD#, 8 VCC

## STWD100YNYWY3F
designator U?
Processor Supervisor 1 Open Drain/Push-Pull Automotive AEC-Q100 5-Pin SOT-23 T/R; Manufacturer: STMicroelectronics; Max Power Dissipation: 320mW; Max Supply Current: 26µA; Max Supply Voltage: 5.5V; Min Supply Voltage: 2.7V; Nominal Supply Current: 13µA; Number of Channels: 1; Operating Supply Voltage: 5V; Reset: Active Low; Reset Timeout: 1.6s; Supplier 1: DigiKey; Supplier Part Number 1: 497-14411-1-ND; Supplier: DigiKey; Supplier Part Number: 497-14411-1-ND; Manufacturer Part Number: STWD100YNYWY3F; RoHS: Compliant; Category: Voltage Supervisors; Stock: 2415; Pricing: 1=1,09, 10=0,785, 25=0,7096, 100=0,6263, 250=0,58648, 500=0,56252, 1000=0,54278 (USD); Ambient Temperature Range High: 125°C; Case/Package: SOT-23-5; China RoHS: Compliant; Contact Plating: Gold; Height: 1.45mm; Height - Seated (Max): 1.45mm; Lead Free: Lead Free; Length: 2.9mm; Lifecycle Status: Production; Max Operating Temperature: 125°C; Min Operating Temperature: -40°C; Mounting Technology: Surface Mount; Number of Circuits: 1; Number of Monitored Inputs: 1; Number of Outputs: 1; Pins: 5; Number of Terminals: 5; Number of Voltages Monitored: 1; Operating Supply Current: 13µA; Radiation Hardening: No; REACH SVHC: Yes; Schedule B: 8542390000, 8542390000|8542390000|8542390000|8542390000|8542390000; Terminal Pitch: 950µm; Type: Watchdog Circuit; Width: 1.6mm; ComponentLink1URL: https://datasheet.octopart.com:443/STWD100YNYWY3F-STMicroelectronics-datasheet-62069531.pdf?src-supplier=STMicroelectronics; ComponentLink1Description: https://datasheet.octopart.com:443/STWD100YNYWY3F-STMicroelectronics-datasheet-62069531.pdf?src-supplier=STMicroelectronics; ComponentLink2URL: https://datasheet.octopart.com:443/STWD100YNYWY3F-STMicroelectronics-datasheet-11766130.pdf?src-supplier=Future+Electronics; ComponentLink2Description: https://datasheet.octopart.com:443/STWD100YNYWY3F-STMicroelectronics-datasheet-11766130.pdf?src-supplier=Future+Electronics; ComponentLink3URL: https://datasheet.octopart.com:443/STWD100YNYWY3F-STMicroelectronics-datasheet-77992484.pdf?src-supplier=element14+APAC; ComponentLink3Description: https://datasheet.octopart.com:443/STWD100YNYWY3F-STMicroelectronics-datasheet-77992484.pdf?src-supplier=element14+APAC; ComponentLink4URL: https://datasheet.octopart.com:443/STWD100YNYWY3F-STMicroelectronics-datasheet-159009383.pdf?src-supplier=SHENGYU+ELECTRONICS; ComponentLink4Description: https://datasheet.octopart.com:443/STWD100YNYWY3F-STMicroelectronics-datasheet-159009383.pdf?src-supplier=SHENGYU+ELECTRONICS
footprint SOT-23-5 (5-Pin, Small Outline Transistor  Plastic Package (SOT23))
pins: 1 WDO, 2 GND, 3 ~{EN}, 4 WDI, 5 VCC

## TLE9104SH
designator U?, comment TLE9104SHXUMA1
IC POWERTRAIN SWITCH DSO20-88; Manufacturer: Infineon; Number of Channels: 4; Max Dual Supply Voltage: 60V; Max Supply Voltage: 5.5V; Number of Outputs: 1; Min Supply Voltage: 3V; Nominal Supply Current: 10mA; Output Current: 3A; Supplier: Farnell; Supplier Part Number: 2888758; Manufacturer Part Number: TLE9104SHXUMA1; RoHS: Yes; Category: Power Management ICs; Stock: 1663; Mounting Technology: Surface Mount; Min Operating Temperature: -40°C; Max Operating Temperature: 150°C; Drain to Source Voltage (Vdss): 60V; Packaging: Cut Tape; Series: Automotive, AEC-Q100; Nominal Supply Voltage: 5.5V; Height: 2.6mm; Lead Free: Lead Free; Halogen Free: Halogen Free; RoHS Compliant: Yes; ComponentLink1URL: https://media.digikey.com/pdf/Data%20Sheets/Infineon%20PDFs/TLE9104SH_Rev1.3_6-5-20.pdf?src-supplier=Digikey; ComponentLink1Description: https://media.digikey.com/pdf/Data%20Sheets/Infineon%20PDFs/TLE9104SH_Rev1.3_6-5-20.pdf?src-supplier=Digikey; ComponentLink2URL: https://datasheet.octopart.com/TLE9104SHXUMA1-Infineon-datasheet-112076141.pdf?src-supplier=Newark; ComponentLink2Description: https://datasheet.octopart.com/TLE9104SHXUMA1-Infineon-datasheet-112076141.pdf?src-supplier=Newark; Supplier 1: Mouser; Supplier Part Number 1: 726-TLE9104SHXUMA1
footprint PG-DSO-20-88 (7.8 L x 7.5 mm)
pins: 1 OUT1, 2 GND, 3 IN1, 4 IN3, 5 SO, 6 SI, 7 ~{CS}, 8 SCK, 9 GND, 10 OUT3, 11 OUT4, 12 GND, 13 ~{RES}, 14 EN, 15 VIO, 16 VDD, 17 IN4, 18 IN2, 19 GND, 20 OUT2, EP

## TLS115B0LDXUMA1
designator U?
Adjustable Positive LDO Regulator, 2V Min, 40V Max, 0.5V Dropout, PDSO10; Manufacturer: Infineon; Accuracy: 0.1%; Dropout Voltage: 250mV; Max Junction Temperature (Tj): 150°C; Max Supply Voltage: 45V; Min Supply Voltage: 4V; Number of Circuits: 1; Output Current: 150mA; Supplier 1: DigiKey; Supplier Part Number 1: TLS115B0LDXUMA1CT-ND; Supplier: DigiKey; Supplier Part Number: TLS115B0LDXUMA1CT-ND; Manufacturer Part Number: TLS115B0LDXUMA1; RoHS: Compliant; Category: LDO Voltage Regulators; Stock: 460; Pricing: 1=1,56, 10=1,14, 25=1,0352, 100=0,9196, 250=0,8646, 500=0,83144, 1000=0,80413, 2500=0,77531 (USD); China RoHS: Compliant; Height: 1.05mm; Height - Seated (Max): 1.15mm; Length: 3.3mm; Lifecycle Status: Production; Max Operating Temperature: 150°C; Min Operating Temperature: -40°C; Number of Outputs: 1; Number of Terminals: 10; Output Type: Adjustable; Package Quantity: 5000; Packaging: Tape & Reel; REACH SVHC: Yes; Terminal Pitch: 500µm; Width: 3.3mm; ComponentLink1URL: https://datasheet.octopart.com:443/TLS115B0LDXUMA1-Infineon-datasheet-95778597.pdf?src-supplier=IHS; ComponentLink1Description: https://datasheet.octopart.com:443/TLS115B0LDXUMA1-Infineon-datasheet-95778597.pdf?src-supplier=IHS; ComponentLink2URL: http://sigma.octopart.com:80/conflict_mineral_statement/Infineon-company-51.pdf?src-supplier=Compliance+Statements; ComponentLink2Description: http://sigma.octopart.com:80/conflict_mineral_statement/Infineon-company-51.pdf?src-supplier=Compliance+Statements
footprint TSON10 (3.3x3.3mm)
pins: 1 OUT, 2 NC, 3 GND, 4 NC, 5 NC, 6 ADJ, 7 NC, 8 EN, 9 NC, 10 IN, EP

## TLV9354IDR
designator U?
IC OPAMP GP 4 CIRCUIT 14SOIC; Manufacturer: Texas Instruments; Manufacturer Part Number: TLV9354IDR; RoHS: No; Category: Amplifiers - Op Amps, Buffer, Instrumentation; Stock: 8863; Pricing: 1=1,35, 10=0,984, 50=0,892, 100=0,791, 1000=0,664, 10000=0,622 (USD); Case/Package: 69Case; Pins: 14NUMBER; Length: 8.65mm; Width: 3.91mm; Height: 1.75mm; Thickness: 1.58mm; Supplier 1: Digikey; Supplier Part Number 1: 296-TLV9354IDRCT-ND
footprint SOIC14 (14 -SOIC (0.154", 3.90mm Width))
part A pins: 1 1OUT, 2 1IN-, 3 1IN+
part B pins: 5 2IN+, 6 2IN-, 7 2OUT
part C pins: 8 3OUT, 9 3IN-, 10 3IN+
part D pins: 12 4IN+, 13 4IN-, 14 4OUT
part E pins: 4 VCC (power), 11 GND (power)

## TPIC8101DWR
designator U?
IC KNOCK SENSOR INTERFACE 20SOIC; Manufacturer: Texas Instruments; Min Supply Voltage: -300mV; Number of Channels: 2NUMBER; Supplier: Digikey; Supplier Part Number: 296-15132-1-ND; Manufacturer Part Number: TPIC8101DWR; RoHS: Yes; Category: UART Interface ICs; Stock: 620; Pricing: 1=6,57, 10=5,049, 25=4,6704, 100=4,254, 250=4,0554, 500=3,9357, 1000=3,83717 (USD); Length: 12.8mm; Width: 7.5mm; Height: 2.65mm; Thickness: 2.35mm; Lead Free: 5697LeadFree; ComponentLink1URL: https://datasheet.ciiva.com/41460/001187892-da-01-en-ic-knock-sensor-tpic8101dwr-soic-20-tid-41460564.pdf?src-supplier=Conrad; ComponentLink1Description: https://datasheet.ciiva.com/41460/001187892-da-01-en-ic-knock-sensor-tpic8101dwr-soic-20-tid-41460564.pdf?src-supplier=Conrad; ComponentLink2URL: https://datasheet.ciiva.com/14194/tpic8101-14194621.pdf?src-supplier=Avnet; ComponentLink2Description: https://datasheet.ciiva.com/14194/tpic8101-14194621.pdf?src-supplier=Avnet; ComponentLink3URL: https://datasheet.ciiva.com/1781/tpic8101-1781697.pdf?src-supplier=Digikey; ComponentLink3Description: https://datasheet.ciiva.com/1781/tpic8101-1781697.pdf?src-supplier=Digikey; ComponentLink4URL: https://datasheet.ciiva.com/1781/tpic8101-1781698.pdf?src-supplier=Digikey; ComponentLink4Description: https://datasheet.ciiva.com/1781/tpic8101-1781698.pdf?src-supplier=Digikey; ComponentLink5URL: https://datasheet.ciiva.com/1781/tpic8101-1781699.pdf?src-supplier=Digikey; ComponentLink5Description: https://datasheet.ciiva.com/1781/tpic8101-1781699.pdf?src-supplier=Digikey; Supplier 1: Digikey; Supplier Part Number 1: 296-15132-1-ND
footprint SOIC20 (20-SOIC (0.295", 7.50mm Width))
pins: 1 VDD, 2 GND, 3 VMID, 4 INTOUT, 5 NC, 6 NC, 7 INT/~{HOLD}, 8 ~{CS}, 9 OSCIN, 10 OSCOUT, 11 SO, 12 SI, 13 SCK, 14 ~{TEST}, 15 CH1NI, 16 CH1IN, 17 CH1FB, 18 CH0FB, 19 CH0IN, 20 CH0NI

## TPS25751
designator U?, comment TPS25751SRSMR
USB-C® Power Delivery 3.2 controller with moisture detection and programmable power-supply 32-VQFN -40 to 125; Manufacturer: Texas Instruments; Manufacturer Lifecycle Status: ACTIVE; Supplier 1: DigiKey; Supplier Part Number 1: 296-TPS25751SRSMRCT-ND; Supplier: DigiKey; Supplier Part Number: 296-TPS25751SRSMRCT-ND; Manufacturer Part Number: TPS25751SRSMR; RoHS: Compliant; Category: Power Management - Specialized; Stock: 4587; Pricing: 1=2,58, 10=1,92, 25=1,7556, 100=1,5741, 250=1,48764, 500=1,4355, 1000=1,39259 (USD); Case/Package: VQFN; Height: 1mm; Length: 4mm; Lifecycle Status: Production; Pins: 32; Thickness: 900µm; Width: 4mm; ComponentLink1URL: https://octopart.com:443/opatz8j6/c1?t=V2t5ESQ_Tip2GgxlC33nyzC3pdVGaardFh6bgI_iPSFWDQAkArSNiOl8Ruod-t2DRERWznG4ucorzmbOe_SXhnTPbC-7IzxoBBFt_oUtG4oOEceRJMGCB5I-qiUrFgIDJWY6l5pcEuiIkeOC_YhdTjY7X0AXlPAMhq1b5-PYi9P0NoLTjIyL9mDwlrFpzvWzJ7Lk-GbX2L_rbqISyZE4P5qHIWJzUtIJAqQnpHHaVsexxIehtyS81x742SglJcby1PDf1rf3ClbH4TN-vipzgiZlMSzZwcI7bsfNdoqdYuu6WcQFrf6O1ksJcOmaSMJzTjpzZjoMZFYtXneSwn1aPVCpTf9b4wAIQDfoXdef2Koa8NpBe_dQc7-qOqtF-MpDdfPYRC4w&src-supplier=Texas+Instruments; ComponentLink1Description: https://octopart.com:443/opatz8j6/c1?t=V2t5ESQ_Tip2GgxlC33nyzC3pdVGaardFh6bgI_iPSFWDQAkArSNiOl8Ruod-t2DRERWznG4ucorzmbOe_SXhnTPbC-7IzxoBBFt_oUtG4oOEceRJMGCB5I-qiUrFgIDJWY6l5pcEuiIkeOC_YhdTjY7X0AXlPAMhq1b5-PYi9P0NoLTjIyL9mDwlrFpzvWzJ7Lk-GbX2L_rbqISyZE4P5qHIWJzUtIJAqQnpHHaVsexxIehtyS81x742SglJcby1PDf1rf3ClbH4TN-vipzgiZlMSzZwcI7bsfNdoqdYuu6WcQFrf6O1ksJcOmaSMJzTjpzZjoMZFYtXneSwn1aPVCpTf9b4wAIQDfoXdef2Koa8NpBe_dQc7-qOqtF-MpDdfPYRC4w&src-supplier=Texas+Instruments; ComponentLink2URL: https://datasheet.octopart.com:443/TPS25751SRSMR-Texas-Instruments-datasheet-182781597.pdf?src-supplier=LCSC; ComponentLink2Description: https://datasheet.octopart.com:443/TPS25751SRSMR-Texas-Instruments-datasheet-182781597.pdf?src-supplier=LCSC; ComponentLink3URL: http://sigma.octopart.com:80/conflict_mineral_statement/Texas-Instruments-company-63.pdf?src-supplier=Compliance+Statements; ComponentLink3Description: http://sigma.octopart.com:80/conflict_mineral_statement/Texas-Instruments-company-63.pdf?src-supplier=Compliance+Statements; ComponentLink4URL: http://sigma.octopart.com:80/reach_statement/Texas-Instruments-company-64.pdf?src-supplier=Compliance+Statements; ComponentLink4Description: http://sigma.octopart.com:80/reach_statement/Texas-Instruments-company-64.pdf?src-supplier=Compliance+Statements
footprint VQFN32 (VQFN, 32-Leads, Body 5x5mm)
pins: 1 LDO_3V3, 2 ADCIN1, 3 ADCIN2, 4 LDO_1V5, 5 GPIO0, 6 GPIO1, 7 GPIO2, 8 I2Ct_SDA, 9 I2Ct_SCL, 10 ~{I2Ct_IRQ}, 11 GND, 12 GND, 13 GPIO11, 14 GND, 15 I2Cc_SDA, 16 I2Cc_SCL, 17 ~{I2Cc_IRQ}, 18 GPIO3, 19 VSYS, 20 GATE_VSYS, 21 GATE_VBUS, 22 GPIO4/USB_P/LD1, 23 GPIO5/USB_N/LD2, 24 CC1, 25 CC2, 26 VBUS, 27 VBUS, 28 PP5V, 29 PP5V, 30 GPIO7, 31 GPIO6, 32 VIN_3V3, EP